# Altium schematic symbol library OmniVision.SchLib: 1 symbol
Pins are listed as number, name and electrical type; pins without a type are passive.

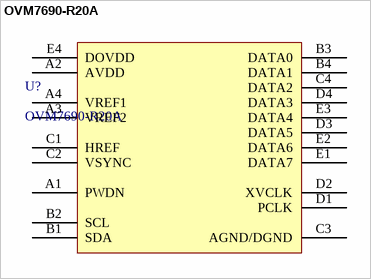
[diagram p0: symbol OVM7690-R20A]

## OVM7690-R20A
designator U?
pins: A1 PWDN, A2 AVDD, A3 VREF2, A4 VREF1, B1 SDA, B2 SCL, B3 DATA0, B4 DATA1, C1 HREF, C2 VSYNC, C3 AGND/DGND, C4 DATA2, D1 PCLK, D2 XVCLK, D3 DATA5, D4 DATA3, E1 DATA7, E2 DATA6, E3 DATA4, E4 DOVDD